# Altium schematic symbol library 0ZCG0260BF2B.SchLib: 2 symbols
Pins are listed as number, name and electrical type; pins without a type are passive.

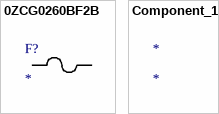
[diagram p0: symbols 0ZCG0260BF2B to Component_1]

## 0ZCG0260BF2B
designator F?
No Description Available; Mfr_Name: Belfuse
footprint 0ZCG_BEL
pins: 1, 2

## Component_1
designator *